# Altium footprint library SENSIRION STS21.PCBLIB: 1 footprints
Each footprint in its own frame and in the unit in brackets; x right, y up, seen from the top. Pads: shape width x height; smd on the part's side, far side on the other; paste and mask are expansions set on the pad; w line width, h text height; cw(c..) or ccw(c..) is an arc to the next point about the centre after c.
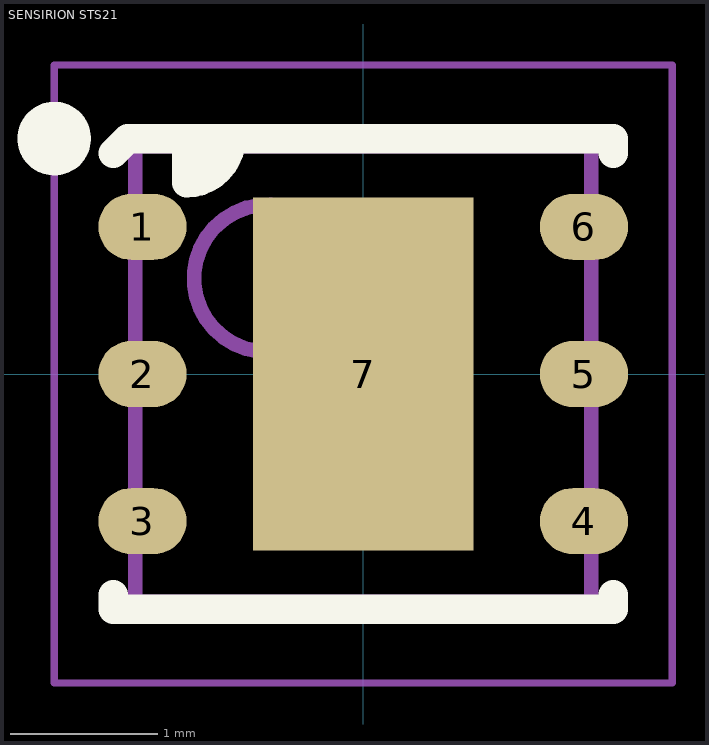
[diagram p0: the footprint, top view; thin cyan lines are the x and y axes]

## SENSIRION STS21 [mm] "DFN, 6-Leads, Body 3.00x3.00mm, Pitch 1.00mm, Thermal Pad 1.50x2.40mm, IPC Medium Density"
height 1.1
pads (7):
  oval 0.6x0.45 smd: 1(-1.5,1) 2(-1.5,0) 3(-1.5,-1) 4(1.5,-1) 5(1.5,0) 6(1.5,1)
  rect 1.5x2.4 smd: 7(0,0)
Top Overlay:
  circle w0.25: c-2.1,1.6 r0.125
  region: -0.9,1.6 -1.2,1.6 -1.2,1.3
  lines w0.2: -1.7,-1.5 -1.7,-1.6 1.7,-1.6 1.7,-1.5 ; -1.7,1.5 -1.6,1.6 1.7,1.6 1.7,1.5 ; -1.2,1.6 -1.2,1.3 ccw(c-1.2,1.6) -0.9,1.6
Mechanical 13:
  circle w0.1: c-0.65,0.65 r0.5
  lines w0.1: -1.55,-1.55 -1.55,1.55 1.55,1.55 1.55,-1.55 -1.55,-1.55
Mechanical 15:
  lines w0.05: -2.1,-2.1 -2.1,2.1 2.1,2.1 2.1,-2.1 -2.1,-2.1
  lines w0.1: -0.5,0 0.5,0 ; 0,-0.5 0,0.5
3D body "SENSIRION STS21.STEP": height 1.1, standoff 0, extent -1.5,-1.5 1.5,1.5